# Altium footprint library QUTMS_SupersealPCB.PcbLib: 2 footprints
Each footprint in its own frame and in the unit in brackets; x right, y up, seen from the top. Pads: shape width x height; smd on the part's side, far side on the other; paste and mask are expansions set on the pad; w line width, h text height; cw(c..) or ccw(c..) is an arc to the next point about the centre after c.
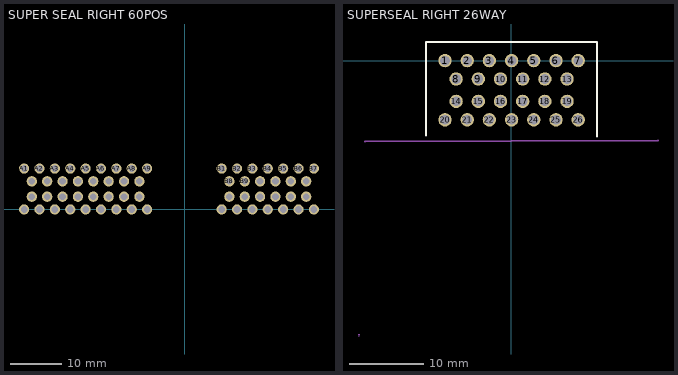
[diagram p0: the footprints below, top view; thin cyan lines are the x and y axes]

## SUPER SEAL RIGHT 60POS [mm]
pads (60):
  round 2 hole 1.3: A1(-31.304,8) A2(-28.304,8) A3(-25.304,8) A4(-22.304,8) A5(-19.304,8) A6(-16.304,8) A7(-13.304,8) A8(-10.304,8) A9(-7.304,8) A10(-29.804,5.5) A11(-26.804,5.5) A12(-23.804,5.5) A13(-20.804,5.5) A14(-17.804,5.5) A15(-14.804,5.5) A16(-11.804,5.5) A17(-8.804,5.5) A18(-29.804,2.5) A19(-26.804,2.5) A20(-23.804,2.5) A21(-20.804,2.5) A22(-17.804,2.5) A23(-14.804,2.5) A24(-11.804,2.5) A25(-8.804,2.5) A26(-31.304,0) A27(-28.304,0) A28(-25.304,0) A29(-22.304,0) A30(-19.304,0) A31(-16.304,0) A32(-13.304,0) A33(-10.304,0) A34(-7.304,0) B1(7.25,8) B2(10.25,8) B3(13.25,8) B4(16.25,8) B5(19.25,8) B6(22.25,8) B7(25.25,8) B8(8.75,5.5) B9(11.75,5.5) B10(14.75,5.5) B11(17.75,5.5) B12(20.75,5.5) B13(23.75,5.5) B14(8.75,2.5) B15(11.75,2.5) B16(14.75,2.5) B17(17.75,2.5) B18(20.75,2.5) B19(23.75,2.5) B20(7.25,0) B21(10.25,0) B22(13.25,0) B23(16.25,0) B24(19.25,0) B25(22.25,0) B26(25.25,0)
3D body "super_seal_60_pos.stp": height 24.62, standoff -7.53, extent -42,-26 36,10.5

## SUPERSEAL RIGHT 26WAY [mil]
pads (26):
  round 71 hole 51: 1(-353.66,0.35) 2(-235.55,0.35) 3(-117.44,0.35) 4(0.67,0.35) 5(118.78,0.35) 6(236.89,0.35) 7(355,0.35) 8(-294.55,-97.76) 9(-176.44,-97.76) 10(-58.33,-97.76) 11(59.78,-97.76) 12(177.89,-97.76) 13(296,-97.76) 14(-294.55,-216.88) 15(-176.44,-216.88) 16(-58.33,-216.88) 17(59.78,-216.88) 18(177.89,-216.88) 19(296,-216.88) 20(-353.66,-315) 21(-235.55,-315) 22(-117.44,-315) 23(0.67,-315) 24(118.78,-315) 25(236.89,-315) 26(355,-315)
Top Overlay:
  lines w10: -455,-400 -455,100 455,100 455,-405
Mechanical 7:
  lines w1: -816.83,-1456.32 -811.83,-1466.32 -806.83,-1456.32 -816.83,-1456.32
  lines w10: -780,-430 780,-425
  text "\/ BOARD EDGE \/" at -234.92,-404 h30
3D body "c-9-6437287-8-c-3d.stp": height 969.21, standoff -296.54, extent -777.56,-1338 777.56,99.01
3D body: height 10, standoff 0, extent 355,-315 365,-305